# Altium footprint library PcbLib1.PcbLib: 4 footprints
Each footprint in its own frame and in the unit in brackets; x right, y up, seen from the top. Pads: shape width x height; smd on the part's side, far side on the other; paste and mask are expansions set on the pad; w line width, h text height; cw(c..) or ccw(c..) is an arc to the next point about the centre after c.
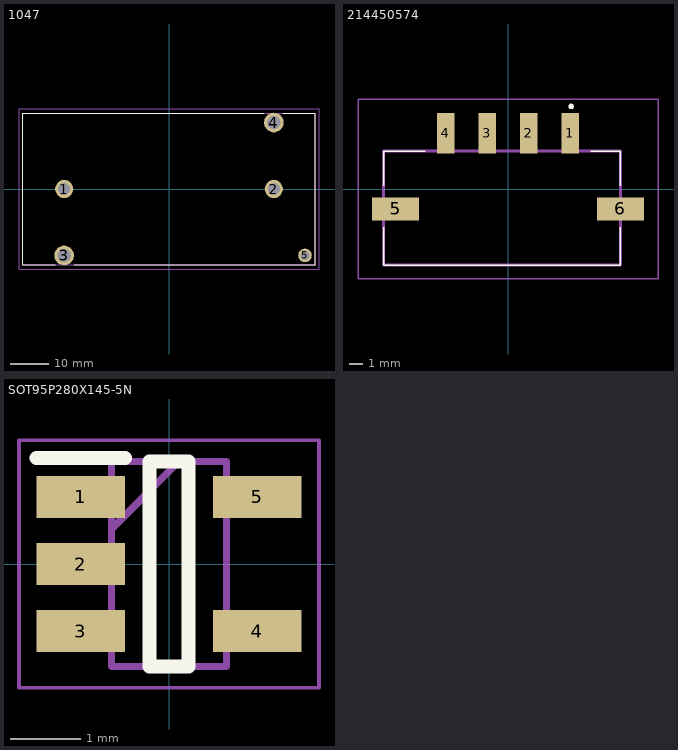
[diagram p0: the footprints below, top view; thin cyan lines are the x and y axes]

## 1047 [mm]
pads (5):
  round 4.77 hole 3.18: 1(-27.6,0) 2(27.6,0)
  round 5.175 hole 3.45: 3(-27.6,-17.5) 4(27.6,17.5)
  round 3.57 hole 2.38: 5(35.82,-17.5)
Top Overlay:
  lines w0.1: -30,-19.9 -38.505,-19.9 -38.505,19.9 25,19.9 ; -25,-19.9 38.505,-19.9 38.505,19.9 30,19.9
Mechanical 13:
  lines w0.2: -38.505,-19.9 -38.505,19.9 38.505,19.9 38.505,-19.9 -38.505,-19.9
Mechanical 15:
  lines w0.1: -39.505,-21.087 -39.505,21.087 39.505,21.087 39.505,-21.087 -39.505,-21.087
3D body "1047.stp": height 14.95, standoff -5, extent -38.505,-19.9 38.505,19.9

## 214450574 [mm]
pads (6):
  rect 1.27x2.92 smd: 1(4.5,4.04) 2(1.5,4.04) 3(-1.5,4.04) 4(-4.5,4.04)
  rect 3.43x1.65 smd: 5(-8.135,-1.44) 6(8.135,-1.44)
Top Overlay:
  lines w0.1: -9,-2.76 -9,-5.5 8.135,-5.5 8.135,-2.76 ; -9,0.24 -9,2.74 -6,2.74 ; 6,2.74 8.135,2.74 8.135,0.24
  lines w0.2: 4.467,5.97 ccw(c4.567,5.97) 4.667,5.97 ccw(c4.567,5.97) 4.467,5.97
Mechanical 13:
  lines w0.2: -9,-5.5 -9,2.74 8.135,2.74 8.135,-5.5 -9,-5.5
Mechanical 15:
  lines w0.1: -10.85,-6.5 -10.85,6.5 10.85,6.5 10.85,-6.5 -10.85,-6.5
3D body "2-1445057-4.stp": height 5.67, standoff 0, extent -9.625,-6.07 9.625,5.09

## PCBComponent_1 [mm]

## SOT95P280X145-5N [mm]
pads (5):
  rect 1.25x0.6 smd: 1(-1.25,0.95) 2(-1.25,0) 3(-1.25,-0.95) 4(1.25,-0.95) 5(1.25,0.95)
Top Overlay:
  lines w0.2: -1.875,1.5 -0.625,1.5 ; -0.275,-1.45 -0.275,1.45 0.275,1.45 0.275,-1.45 -0.275,-1.45
Mechanical 13:
  lines w0.1: -0.812,0.5 0.138,1.45 ; -0.812,-1.45 -0.812,1.45 0.812,1.45 0.812,-1.45 -0.812,-1.45
Mechanical 15:
  lines w0.05: -2.125,-1.75 -2.125,1.75 2.125,1.75 2.125,-1.75 -2.125,-1.75
3D body "MAX1726EUK50+T.stp": height 1.45, standoff 0, extent -1.4,-1.45 1.4,1.45